# Altium footprint library Rising Clamp System WR-TBL_10.00 mm.PcbLib: 55 footprints (part 4 of 4)
Each footprint in its own frame and in the unit in brackets; x right, y up, seen from the top. Pads: shape width x height; smd on the part's side, far side on the other; paste and mask are expansions set on the pad; w line width, h text height; cw(c..) or ccw(c..) is an arc to the next point about the centre after c.
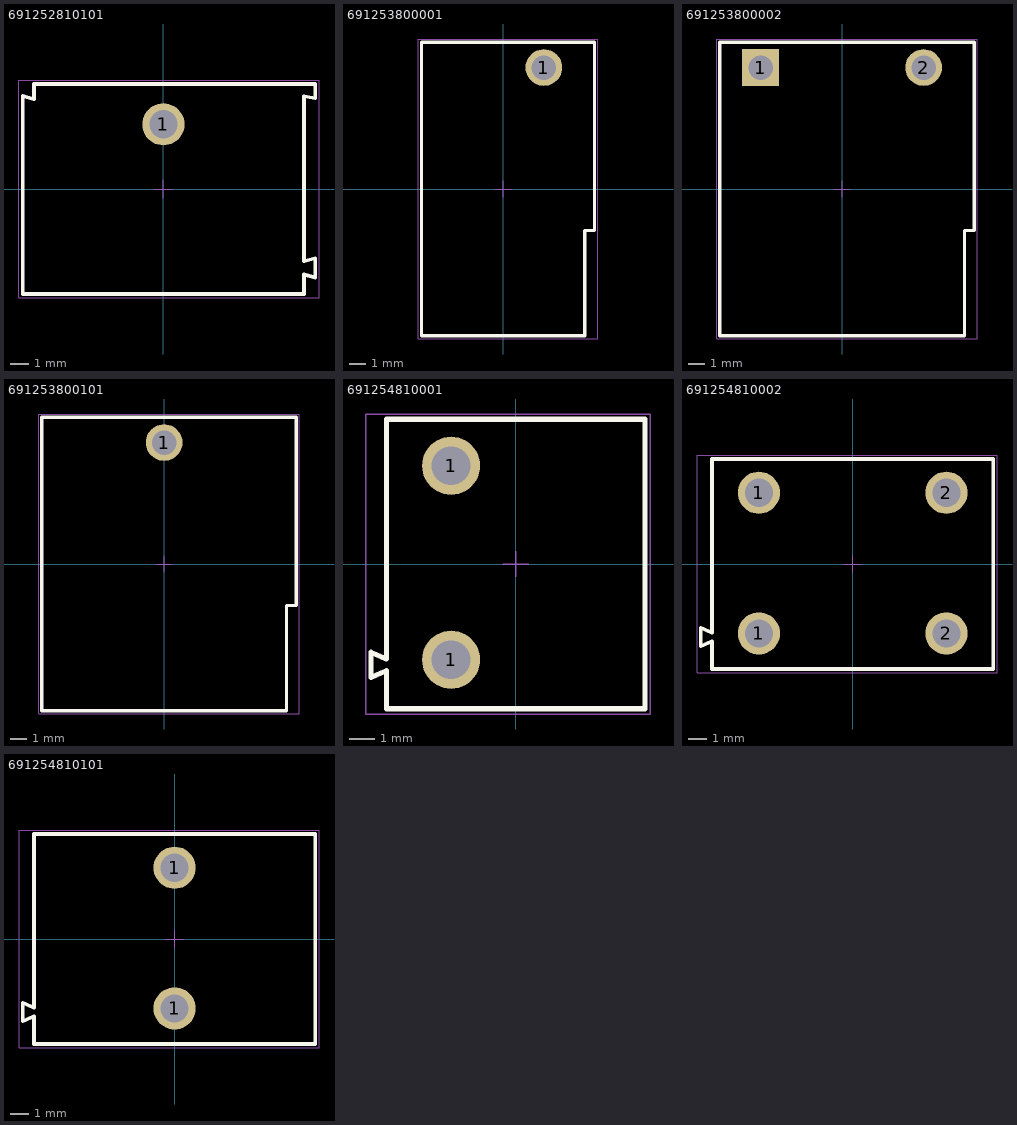
[diagram p3: the footprints below, top view; thin cyan lines are the x and y axes]

## 691252810101 [mm] "Serie 2528 - 10.00 mm _ 1 pin"
height 17.5
pads (1):
  round 2.25 hole 1.5: 1(0,3.45)
Top Overlay:
  lines w0.2: -6.9,4.79 -6.9,5.6 8.1,5.6 8.1,4.84 ; -6.899,4.792 -7.5,4.96 -7.5,-5.6 7.5,-5.6 7.5,-4.56 8.1,-4.72 ; 8.1,-4.72 8.1,-3.7 ; 8.1,-3.7 7.5,-3.86 7.5,4.95 8.101,4.843
M13 Assembly Top:
  lines w0.1: -6.9,4.79 -6.9,5.6 8.1,5.6 8.1,4.84 ; -6.899,4.792 -7.5,4.96 -7.5,-5.6 7.5,-5.6 7.5,-4.56 8.1,-4.72 ; 8.1,-4.72 8.1,-3.7 ; 8.1,-3.7 7.5,-3.86 7.5,4.95 8.101,4.843
M15 Courtyard Top:
  lines w0.05: -0.5,0 0.5,0 ; 0,-0.5 0,0.5 ; -7.7,-5.8 -7.7,5.8 8.3,5.8 8.3,-5.8 -7.7,-5.8
3D body "691252810101.stp": height 17.7, standoff -2.8, extent -7.5,-5.6 8.1,5.6

## 691253800001 [mm] "Serie 2538 - 10.00 mm _ 1 pin"
height 11.2
pads (1):
  round 2.25 hole 1.5: 1(2.5,7.45)
Top Overlay:
  lines w0.2: -5,-9 5,-9 5,-2.55 5.6,-2.55 5.6,9 -5,9 -5,-9
M13 Assembly Top:
  lines w0.1: -5,-9 -5,9 5.6,9 5.6,-2.55 5,-2.55 5,-9 -5,-9
M15 Courtyard Top:
  lines w0.05: -0.5,0 0.5,0 ; 0,-0.5 0,0.5 ; -5.2,-9.2 -5.2,9.2 5.8,9.2 5.8,-9.2 -5.2,-9.2
3D body "691253800001.stp": height 11.35, standoff -3.85, extent -5,-9 5.6,9

## 691253800002 [mm] "Serie 2538 - 10.00 mm _ 2 pins"
height 11.2
pads (2):
  rect 2.25x2.25 hole 1.5: 1(-5,7.45)
  round 2.25 hole 1.5: 2(5,7.45)
Top Overlay:
  lines w0.2: -7.5,-9 7.5,-9 7.5,-2.55 8.1,-2.55 8.1,9 -7.5,9 -7.5,-9
M13 Assembly Top:
  lines w0.1: -7.5,-9 -7.5,9 8.1,9 8.1,-2.55 7.5,-2.55 7.5,-9 -7.5,-9
M15 Courtyard Top:
  lines w0.05: -0.5,0 0.5,0 ; 0,-0.5 0,0.5 ; -7.7,-9.2 -7.7,9.2 8.3,9.2 8.3,-9.2 -7.7,-9.2
3D body "691253800002.stp": height 11.35, standoff -3.85, extent -7.5,-9 8.1,9

## 691253800101 [mm] "Serie 2538 - 10.00 mm _ 1 pin"
height 11.2
pads (1):
  round 2.25 hole 1.5: 1(0,7.45)
Top Overlay:
  lines w0.2: -7.5,-9 -7.5,9 8.1,9 8.1,-2.55 7.5,-2.55 7.5,-9 -7.5,-9
M13 Assembly Top:
  lines w0.1: -7.5,-9 7.5,-9 7.5,-2.55 8.1,-2.55 8.1,9 -7.5,9 -7.5,-9
M15 Courtyard Top:
  lines w0.05: -0.5,0 0.5,0 ; 0,-0.5 0,0.5 ; -7.7,-9.2 8.3,-9.2 8.3,9.2 -7.7,9.2 -7.7,-9.2
3D body "691253800101.stp": height 11.35, standoff -3.85, extent -7.5,-9 8.1,9

## 691254810001 [mm] "Serie 2548-10.00mm Horizontal Cable Entry with Rising Cage Clamp, 1 pin"
height 18
pads (2):
  round 2.25 hole 1.5: 1(-2.5,-3.7) 1(-2.5,3.8)
Top Overlay:
  lines w0.2: -5.001,-4.128 -5.6,-4.39 -5.6,-3.41 -5.001,-3.672 -5.001,5.599 5,5.6 5,-5.6 -5,-5.6 -5,-4.13
M13 Assembly Top:
  lines w0.1: -5.001,-4.128 -5.6,-4.39 -5.6,-3.41 -5.001,-3.672 -5.001,5.599 5,5.6 5,-5.6 -5,-5.6 -5,-4.13
M15 Courtyard Top:
  lines w0.05: -0.5,0 0.5,0 ; 0,-0.5 0,0.5 ; -5.8,-5.8 -5.8,5.8 5.2,5.8 5.2,-5.8 -5.8,-5.8
3D body "691254810001.stp": height 18.1, standoff -3.4, extent -5.6,-5.6 5,5.6

## 691254810002 [mm] "Serie 2548-10.00mm Horizontal Cable Entry with Rising Cage Clamp, 2 pins"
height 18
pads (4):
  round 2.25 hole 1.5: 1(-5,-3.7) 1(-5,3.8) 2(5,-3.7) 2(5,3.8)
Top Overlay:
  lines w0.2: -7.5,-4.13 -7.5,-5.6 7.5,-5.6 7.5,5.6 -7.5,5.6 -7.5,-3.672 -8.1,-3.41 -8.1,-4.39 -7.501,-4.128
M13 Assembly Top:
  lines w0.1: -7.5,-4.13 -7.5,-5.6 7.5,-5.6 7.5,5.6 -7.501,5.6 -7.501,-3.672 -8.1,-3.41 -8.1,-4.39 -7.501,-4.128
M15 Courtyard Top:
  lines w0.05: -0.5,0 0.5,0 ; 0,-0.5 0,0.5 ; -8.3,-5.8 -8.3,5.8 7.7,5.8 7.7,-5.8 -8.3,-5.8
3D body "691254810002.stp": height 18.1, standoff -3.4, extent -8.1,-5.6 7.5,5.6

## 691254810101 [mm] "Serie 2548-10.00mm Horizontal Cable Entry with Rising Cage Clamp, 1 pin"
height 18
pads (2):
  round 2.25 hole 1.5: 1(0,-3.7) 1(0,3.8)
Top Overlay:
  lines w0.2: -7.5,-4.13 -7.5,-5.6 7.5,-5.6 7.5,5.6 -7.5,5.6 -7.5,-3.672 -8.1,-3.41 -8.1,-4.39 -7.501,-4.128
M13 Assembly Top:
  lines w0.1: -7.5,-4.13 -7.5,-5.6 7.5,-5.6 7.5,5.6 -7.501,5.6 -7.501,-3.672 -8.1,-3.41 -8.1,-4.39 -7.501,-4.128
M15 Courtyard Top:
  lines w0.05: -0.5,0 0.5,0 ; 0,-0.5 0,0.5 ; -8.3,-5.8 -8.3,5.8 7.7,5.8 7.7,-5.8 -8.3,-5.8
3D body "691254810101.stp": height 18.1, standoff -3.4, extent -8.1,-5.6 7.5,5.6